# Altium footprint library Capacitor10u.PcbLib: 3 footprints
Each footprint in its own frame and in the unit in brackets; x right, y up, seen from the top. Pads: shape width x height; smd on the part's side, far side on the other; paste and mask are expansions set on the pad; w line width, h text height; cw(c..) or ccw(c..) is an arc to the next point about the centre after c.
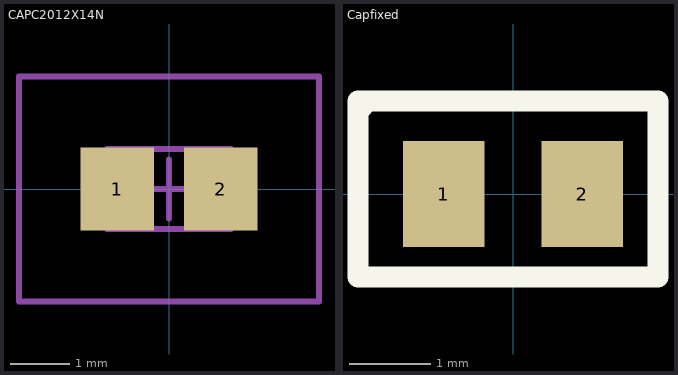
[diagram p0: the footprints below, top view; thin cyan lines are the x and y axes]

## CAPC2012X14N [mm] "Chip Capacitor, 2-Leads, Body 2.0x1.3mm, IPC Medium Density"
height 1.35
pads (2):
  rect 1.25x1.4 smd: 1(-0.875,0) 2(0.875,0)
Mechanical 13:
  lines w0.1: -1.05,-0.675 1.05,-0.675 1.05,0.675 -1.05,0.675 -1.05,-0.675
Mechanical 15:
  lines w0.1: -0.5,0 0.5,0 ; 0,-0.5 0,0.5 ; -2.54,-1.905 2.54,-1.905 2.54,1.905 -2.54,1.905 -2.54,-1.905
3D body: height 1.35, standoff 0, extent -1.05,-0.675 1.05,0.675

## Capfixed [mm]
pads (2):
  rect 1x1.3 smd: 1(-0.85,0) 2(0.85,0)
Top Overlay:
  lines w0.254: 1.524,1.143 -1.778,1.143 -1.905,1.016 ; -1.905,1.016 -1.905,1.143 1.778,1.143 1.778,-1.016 -1.905,-1.016 -1.905,1.016

## PCBComponent_1 - duplicate [mm]